# Altium integrated library C1812W104KDRACTU.IntLib: 1 symbol
Pins are listed as number, name and electrical type; pins without a type are passive.

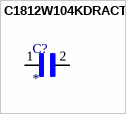
[diagram p0: symbol C1812W104KDRACTU]

## C1812W104KDRACTU
designator C?
CAPACITOR, 100NF, 1000V, X7R, 1812; Capacitance:0.1ÂµF; Capacitance Tolerance:Â± 10%; Dielectric Characteristic:X7R; Voltage Rating:1kV; Capacitor Case Style:1812 [4532 Metric]; Capacitor Terminals:SMD; Operating Temperature ;RoHS Compliant: Yes; MP: C1812W104KDRACTU; Package: None; Price: None; Value: *; Availability: Unavailable
footprint CAPC4532X185N
pins: 1, 2